# EAGLE library part M74HCT74 (library pixel_masterlib)
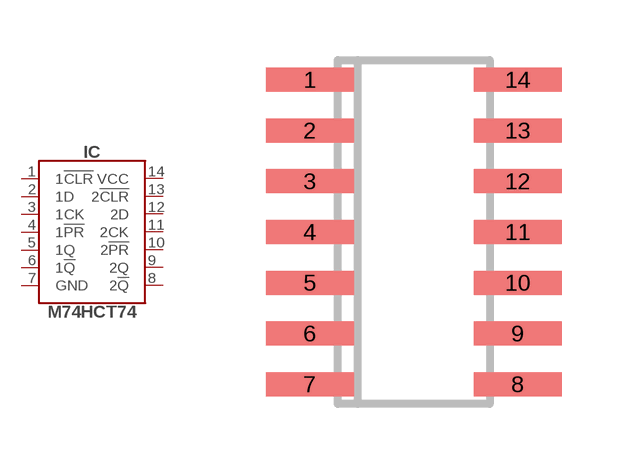
[diagram p16: symbol with the pads of SO-14; footprint SO-14]

Designator prefix IC

## M74HCT74 (LINK: https://www.chipdip.ru/product/m74hct74rm1)  [SO-14]
1  1!CLR
2  1D
3  1CK
4  1!PR
5  1Q
6  1!Q
7  GND
8  2!Q
9  2Q
10  2!PR
11  2CK
12  2D
13  2!CLR
14  VCC

## Footprint SO-14 (pad centres in mm)
Small Outline Narrow Plastic Gull Wing 150-mil body, package type SL
smd 2.2 x 0.6: 1 -2.6,3.81; 2 -2.6,2.54; 3 -2.6,1.27; 4 -2.6,0; 5 -2.6,-1.27; 6 -2.6,-2.54; 7 -2.6,-3.81; 8 2.6,-3.81; 9 2.6,-2.54; 10 2.6,-1.27; 11 2.6,0; 12 2.6,1.27; 13 2.6,2.54; 14 2.6,3.81